# EAGLE library part TUSB2077A (library mullac)
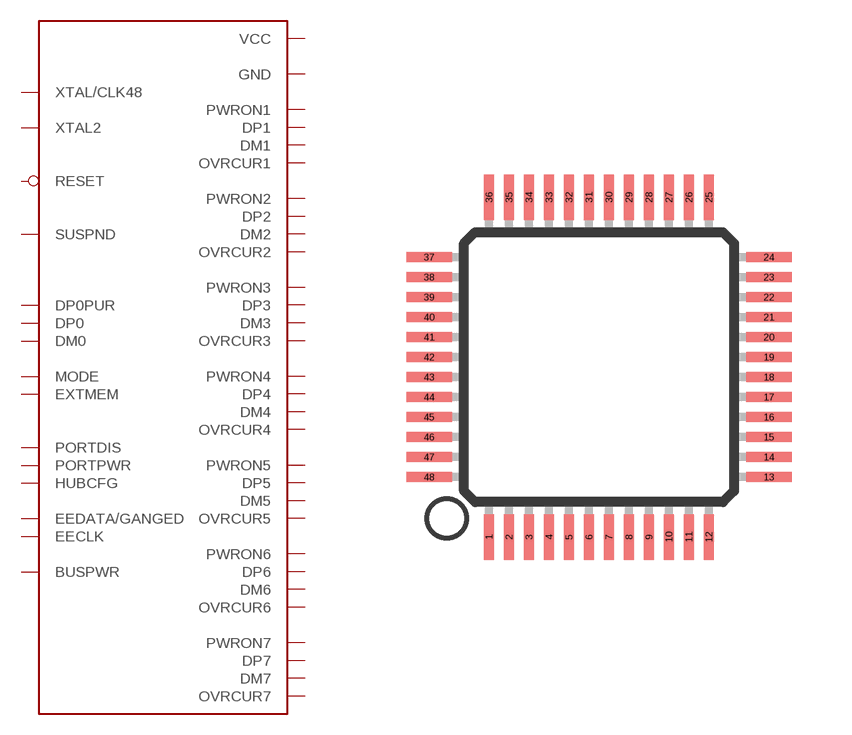
[diagram p15: symbol with the pads of LQFP-48; footprint LQFP-48]

Designator prefix -

## TUSB2077ALQFP-48  [LQFP-48]
1  SUSPND
2  DP0PUR
3  DP0
4  DM0
5  GND
6  RESET
7  EECLK
8  EEDATA/GANGED
9  VCC
10  BUSPWR
11  PWRON1
12  OVRCUR1
13  DM1
14  DP1
15  PWRON2
16  OVRCUR2
17  DM2
18  DP2
19  PWRON3
20  OVRCUR3
21  DM3
22  DP3
23  PWRON4
24  GND
25  OVRCUR4
26  DM4
27  DP4
28  PWRON5
29  OVRCUR5
30  DM5
31  DP5
32  PWRON6
33  OVRCUR6
34  DM6
35  DP6
36  PWRON7
37  OVRCUR7
38  DM7
39  DP7
40  HUBCFG
41  PORTPWR
42  PORTDIS
43  GND
44  XTAL2
45  XTAL/CLK48
46  VCC
47  EXTMEM
48  MODE

## Footprint LQFP-48 (pad centres in mm)
smd 0.254 x 1.143: 1 -2.75,-4.25; 2 -2.25,-4.25; 3 -1.75,-4.25; 4 -1.25,-4.25; 5 -0.75,-4.25; 6 -0.25,-4.25; 7 0.25,-4.25; 8 0.75,-4.25; 9 1.25,-4.25; 10 1.75,-4.25; 11 2.25,-4.25; 12 2.75,-4.25; 25 2.75,4.25; 26 2.25,4.25; 27 1.75,4.25; 28 1.25,4.25; 29 0.75,4.25; 30 0.25,4.25; 31 -0.25,4.25; 32 -0.75,4.25; 33 -1.25,4.25; 34 -1.75,4.25; 35 -2.25,4.25; 36 -2.75,4.25
smd 1.143 x 0.254: 13 4.25,-2.75; 14 4.25,-2.25; 15 4.25,-1.75; 16 4.25,-1.25; 17 4.25,-0.75; 18 4.25,-0.25; 19 4.25,0.25; 20 4.25,0.75; 21 4.25,1.25; 22 4.25,1.75; 23 4.25,2.25; 24 4.25,2.75; 37 -4.25,2.75; 38 -4.25,2.25; 39 -4.25,1.75; 40 -4.25,1.25; 41 -4.25,0.75; 42 -4.25,0.25; 43 -4.25,-0.25; 44 -4.25,-0.75; 45 -4.25,-1.25; 46 -4.25,-1.75; 47 -4.25,-2.25; 48 -4.25,-2.75